# Altium schematic symbol library RE0201DRE07100KL.SchLib: 1 symbol
Pins are listed as number, name and electrical type; pins without a type are passive.

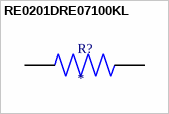
[diagram p0: symbol RE0201DRE07100KL]

## RE0201DRE07100KL
designator R?
100 kOhms Â±0.5% 0.05W, 1/20W Chip Resistor 0201 (0603 Metric) Moisture Resistant Thick Film; MF: Yageo; MP: RE0201DRE07100KL; SnapEDA_Link: https://www.snapeda.com/parts/RE0201DRE07100KL/Yageo/view-part/?ref=snap; Package: 0603 Rohm Semiconductor; Value: *; Check_prices: https://www.snapeda.com/parts/RE0201DRE07100KL/Yageo/view-part/?ref=eda
footprint RESC0603X26N
pins: 1, 2